# EAGLE library part 7508112341 (library WE-OLTI)
WE-OLTI Offline Flyback Transformers Characteristics Nominal input voltage: 85–265 VAC (120–375 VDC) Small size Low leakage inductance Multiple-output options Operating temperature: −40 °C to +125 °C Isolation Voltage: 2 kVAC to 5 kVAC Options for fixed frequency or quasi-resonant mode operation Most products meet reinforced insulation Applications Industrial controls USB chargers Utility metering devices Process controls Factory automation Security systems Garage door opener auxiliary supplies Home appliances Especially designed for several ICs from Texas Instruments <https://www.we-online.com/components/media/o814034v209%20UtOLTI%20Group%20CGI.jpg> Details see: www.we-online.com/en/components/products/WE-OLTI <www.we-online.com/catalog/WE-OLTI/?utm_source=eagle_model&utm_medium=description_link&utm_campaign=eisos_eagle> Created by Ella Wu 2025-02-06 2025 (C) Wurth Elektronik
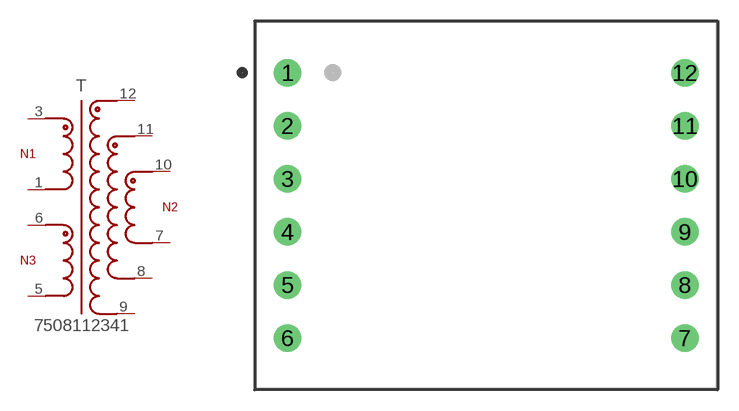
[diagram p17: symbol with the pads of WE-OLTI_EFD25_L26.3W33H14.76; footprint WE-OLTI_EFD25_L26.3W33H14.76]

Designator prefix T

## 7508112341 (DATASHEET-URL: https://www.we-online.com/redexpert/spec/7508112341?ae; FSWITCH: 60 - 120kHz; HEIGHT: 14.76mm; IOUT1: 3000mA; ISAT: 3.3A; L: 380uH; LENGTH: 26.3mm; MOUNT: THT; N: 7:1:1; PART-NUMBER: 7508112341; SIZE: EFD25; VALUE: 380uH; VAUX: 12V; VIN: 85 - 265 V (AC); VOUT1: 12V; VT: 4500V(AC); WIDTH: 33mm)  [WE-OLTI_EFD25_L26.3W33H14.76]
1  1  pas
3  3  pas
5  5  pas
6  6  pas
7  7  pas
8  8  pas
9  9  pas
10  10  pas
11  11  pas
12  12  pas

## Footprint WE-OLTI_EFD25_L26.3W33H14.76 (pad centres in mm)
WE-OLTI Offline Flyback Transformers Size:EFD25,THT,12pins LXWXH=26.3X33X14.76mm Bobbin: 070-6008
drill 1.32: 1 -14.25,9.525; 2 -14.25,5.715; 3 -14.25,1.905; 4 -14.25,-1.905; 5 -14.25,-5.715; 6 -14.25,-9.525; 7 14.25,-9.525; 8 14.25,-5.715; 9 14.25,-1.905; 10 14.25,1.905; 11 14.25,5.715; 12 14.25,9.525